# Altium footprint library PCB1.PcbLib: 55 footprints (part 4 of 4)
Each footprint in its own frame and in the unit in brackets; x right, y up, seen from the top. Pads: shape width x height; smd on the part's side, far side on the other; paste and mask are expansions set on the pad; w line width, h text height; cw(c..) or ccw(c..) is an arc to the next point about the centre after c.
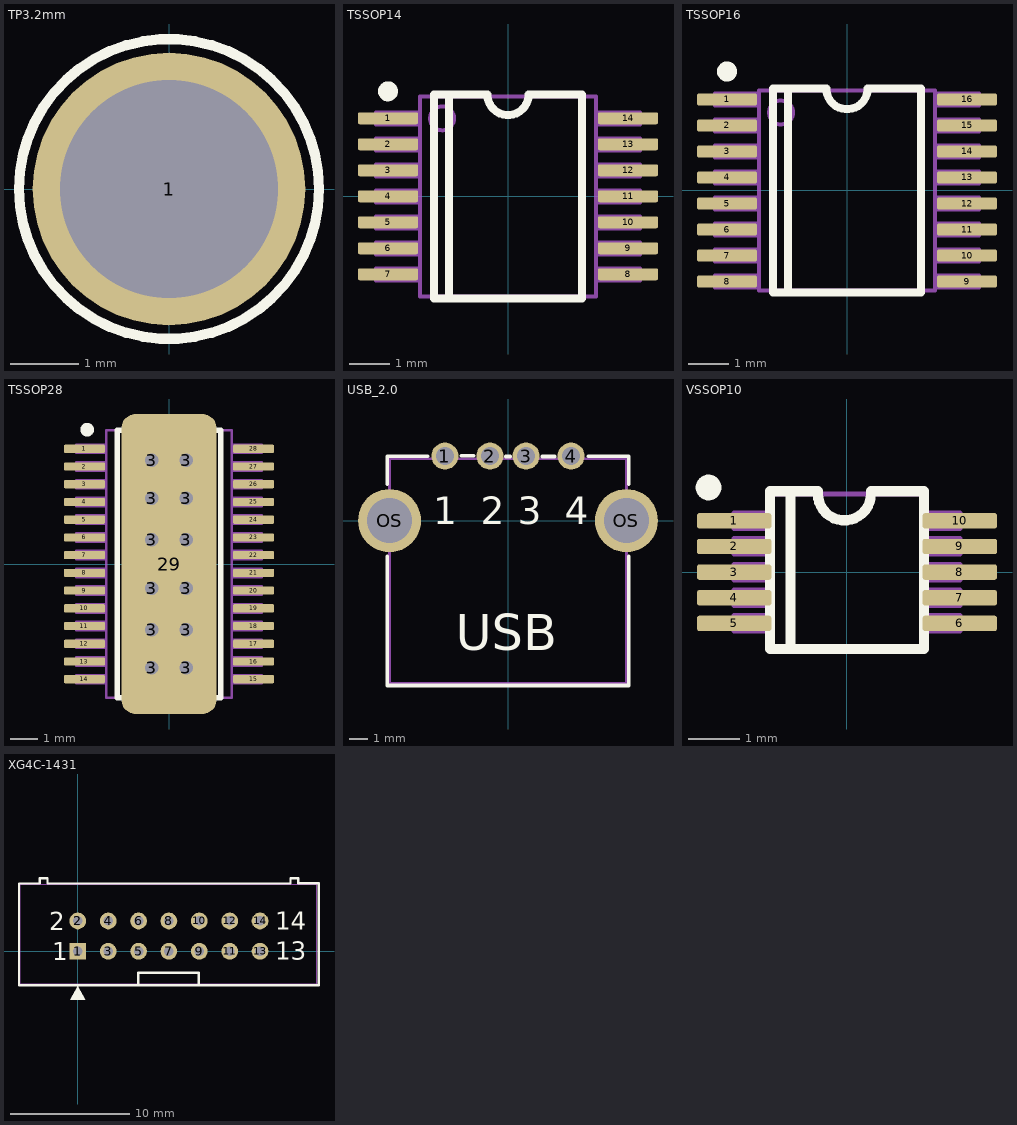
[diagram p3: the footprints below, top view; thin cyan lines are the x and y axes]

## TP3.2mm [mm] "TEST POINT 3.2mm"
pads (1):
  round 4 hole 3.2: 1(0,0)
Top Overlay:
  circle w0.15: c0,0 r2.2
Bottom Overlay:
  circle w0.15: c0,0 r1.55

## TSSOP14 [mm] "4.4mm Wide,0.65mm Pitch"
height 1.2
pads (14):
  rrect30% 1.5x0.3 smd: 1(-3,1.95) 2(-3,1.3) 3(-3,0.65) 4(-3,0) 5(-3,-0.65) 6(-3,-1.3) 7(-3,-1.95) 8(3,-1.95) 9(3,-1.3) 10(3,-0.65) 11(3,0) 12(3,0.65) 13(3,1.3) 14(3,1.95)
Top Overlay:
  circle w0.25: c-3,2.625 r0.125
  lines w0.2: -1.475,-2.55 -1.475,2.55 ; -1.85,-2.55 -1.85,2.55 -0.517,2.55 ccw(c0,2.55) 0.517,2.55 1.85,2.55 1.85,-2.55 -1.85,-2.55
Mechanical 5:
  circle w0.1: c-1.65,1.95 r0.3
  lines w0.1: -2.2,-2.1 -3.3,-2.1 -3.3,-1.8 -2.2,-1.8 ; -2.2,-1.45 -3.3,-1.45 -3.3,-1.15 -2.2,-1.15 ; -2.2,-0.8 -3.3,-0.8 -3.3,-0.5 -2.2,-0.5 ; -2.2,-0.15 -3.3,-0.15 -3.3,0.15 -2.2,0.15 ; -2.2,0.5 -3.3,0.5 -3.3,0.8 -2.2,0.8 ; -2.2,1.15 -3.3,1.15 -3.3,1.45 -2.2,1.45 ; -2.2,1.8 -3.3,1.8 -3.3,2.1 -2.2,2.1 ; 2.2,-2.1 3.3,-2.1 3.3,-1.8 2.2,-1.8 ; 2.2,-1.45 3.3,-1.45 3.3,-1.15 2.2,-1.15 ; 2.2,-0.8 3.3,-0.8 3.3,-0.5 2.2,-0.5 ; 2.2,-0.15 3.3,-0.15 3.3,0.15 2.2,0.15 ; 2.2,0.5 3.3,0.5 3.3,0.8 2.2,0.8 ; 2.2,1.15 3.3,1.15 3.3,1.45 2.2,1.45 ; 2.2,1.8 3.3,1.8 3.3,2.1 2.2,2.1 ; -2.2,-2.5 -2.2,2.5 2.2,2.5 2.2,-2.5 -2.2,-2.5
  text ".designator" at -1.75,-0.4 h0.8
Mechanical 13:
  lines w0.1: -2.2,-2.1 -3.3,-2.1 -3.3,-1.8 -2.2,-1.8 ; -2.2,-1.45 -3.3,-1.45 -3.3,-1.15 -2.2,-1.15 ; -2.2,-0.8 -3.3,-0.8 -3.3,-0.5 -2.2,-0.5 ; -2.2,-0.15 -3.3,-0.15 -3.3,0.15 -2.2,0.15 ; -2.2,0.5 -3.3,0.5 -3.3,0.8 -2.2,0.8 ; -2.2,1.15 -3.3,1.15 -3.3,1.45 -2.2,1.45 ; -2.2,1.8 -3.3,1.8 -3.3,2.1 -2.2,2.1 ; 2.2,-2.1 3.3,-2.1 3.3,-1.8 2.2,-1.8 ; 2.2,-1.45 3.3,-1.45 3.3,-1.15 2.2,-1.15 ; 2.2,-0.8 3.3,-0.8 3.3,-0.5 2.2,-0.5 ; 2.2,-0.15 3.3,-0.15 3.3,0.15 2.2,0.15 ; 2.2,0.5 3.3,0.5 3.3,0.8 2.2,0.8 ; 2.2,1.15 3.3,1.15 3.3,1.45 2.2,1.45 ; 2.2,1.8 3.3,1.8 3.3,2.1 2.2,2.1 ; -2.2,-2.5 2.2,-2.5 2.2,2.5 -2.2,2.5 -2.2,-2.5
3D body: height 1.8, standoff 0, extent -1.85,-2.55 1.85,2.55

## TSSOP16 [mm]
pads (16):
  rrect30% 1.5x0.3 smd: 1(-3,2.275) 2(-3,1.625) 3(-3,0.975) 4(-3,0.325) 5(-3,-0.325) 6(-3,-0.975) 7(-3,-1.625) 8(-3,-2.275) 9(3,-2.275) 10(3,-1.625) 11(3,-0.975) 12(3,-0.325) 13(3,0.325) 14(3,0.975) 15(3,1.625) 16(3,2.275)
Top Overlay:
  circle w0.25: c-3,2.975 r0.125
  lines w0.2: -1.475,-2.55 -1.475,2.55 ; -1.85,-2.55 1.85,-2.55 1.85,2.55 0.517,2.55 cw(c0,2.55) -0.517,2.55 -1.85,2.55 -1.85,-2.55
Mechanical 5:
  circle w0.1: c-1.65,1.95 r0.3
  rectangle: -3.3,2.125 -2.2,2.425
  lines w0.1: -2.2,-2.425 -3.3,-2.425 -3.3,-2.125 -2.2,-2.125 ; -2.2,-1.775 -3.3,-1.775 -3.3,-1.475 -2.2,-1.475 ; -2.2,-1.125 -3.3,-1.125 -3.3,-0.825 -2.2,-0.825 ; -2.2,-0.475 -3.3,-0.475 -3.3,-0.175 -2.2,-0.175 ; -2.2,0.175 -3.3,0.175 -3.3,0.475 -2.2,0.475 ; -2.2,0.825 -3.3,0.825 -3.3,1.125 -2.2,1.125 ; -2.2,1.475 -3.3,1.475 -3.3,1.775 -2.2,1.775 ; -2.2,2.125 -3.3,2.125 -3.3,2.425 -2.2,2.425 ; 2.2,-2.425 3.3,-2.425 3.3,-2.125 2.2,-2.125 ; 2.2,-1.775 3.3,-1.775 3.3,-1.475 2.2,-1.475 ; 2.2,-1.125 3.3,-1.125 3.3,-0.825 2.2,-0.825 ; 2.2,-0.475 3.3,-0.475 3.3,-0.175 2.2,-0.175 ; 2.2,0.175 3.3,0.175 3.3,0.475 2.2,0.475 ; 2.2,0.825 3.3,0.825 3.3,1.125 2.2,1.125 ; 2.2,1.475 3.3,1.475 3.3,1.775 2.2,1.775 ; 2.2,2.125 3.3,2.125 3.3,2.425 2.2,2.425 ; -2.2,-2.5 -2.2,2.5 2.2,2.5 2.2,-2.5 -2.2,-2.5
  text ".designator" at 1.27,4.572 h0.8
Mechanical 13:
  rectangle: -3.3,2.125 -2.2,2.425
  lines w0.1: -2.2,-2.425 -3.3,-2.425 -3.3,-2.125 -2.2,-2.125 ; -2.2,-1.775 -3.3,-1.775 -3.3,-1.475 -2.2,-1.475 ; -2.2,-1.125 -3.3,-1.125 -3.3,-0.825 -2.2,-0.825 ; -2.2,-0.475 -3.3,-0.475 -3.3,-0.175 -2.2,-0.175 ; -2.2,0.175 -3.3,0.175 -3.3,0.475 -2.2,0.475 ; -2.2,0.825 -3.3,0.825 -3.3,1.125 -2.2,1.125 ; -2.2,1.475 -3.3,1.475 -3.3,1.775 -2.2,1.775 ; -2.2,2.125 -3.3,2.125 -3.3,2.425 -2.2,2.425 ; 2.2,-2.425 3.3,-2.425 3.3,-2.125 2.2,-2.125 ; 2.2,-1.775 3.3,-1.775 3.3,-1.475 2.2,-1.475 ; 2.2,-1.125 3.3,-1.125 3.3,-0.825 2.2,-0.825 ; 2.2,-0.475 3.3,-0.475 3.3,-0.175 2.2,-0.175 ; 2.2,0.175 3.3,0.175 3.3,0.475 2.2,0.475 ; 2.2,0.825 3.3,0.825 3.3,1.125 2.2,1.125 ; 2.2,1.475 3.3,1.475 3.3,1.775 2.2,1.775 ; 2.2,2.125 3.3,2.125 3.3,2.425 2.2,2.425 ; -2.2,-2.5 2.2,-2.5 2.2,2.5 -2.2,2.5 -2.2,-2.5
3D body "User Library-TSSOP-16-1.STEP": height 1.1, standoff 0, extent -3.2,-2.5 3.2,2.5

## TSSOP28 [mm]
pads (41):
  rrect30% 1.5x0.3 smd: 1(-3.1,4.225) 2(-3.1,3.575) 3(-3.1,2.925) 4(-3.1,2.275) 5(-3.1,1.625) 6(-3.1,0.975) 7(-3.1,0.325) 8(-3.1,-0.325) 9(-3.1,-0.975) 10(-3.1,-1.625) 11(-3.1,-2.275) 12(-3.1,-2.925) 13(-3.1,-3.575) 14(-3.1,-4.225) 15(3.1,-4.225) 16(3.1,-3.575) 17(3.1,-2.925) 18(3.1,-2.275) 19(3.1,-1.625) 20(3.1,-0.975) 21(3.1,-0.325) 22(3.1,0.325) 23(3.1,0.975) 24(3.1,1.625) 25(3.1,2.275) 26(3.1,2.925) 27(3.1,3.575) 28(3.1,4.225)
  round 0.8 hole 0.5: 3(-0.635,-3.81) 3(-0.635,-2.413) 3(-0.635,-0.889) 3(-0.635,0.889) 3(-0.635,2.413) 3(-0.635,3.81) 3(0.635,-3.81) 3(0.635,-2.413) 3(0.635,-0.889) 3(0.635,0.889) 3(0.635,2.413) 3(0.635,3.81)
  rrect30% 3.5x11 smd: 29(0,0)
Top Overlay:
  circle w0.25: c-3,4.925 r0.125
  lines w0.2: -1.475,-4.9 -1.475,4.9 ; -1.9,-4.9 1.9,-4.9 1.9,4.9 0.517,4.9 cw(c0,4.9) -0.517,4.9 -1.9,4.9 -1.9,-4.9
Mechanical 5:
  rectangle: -3.4,4.075 -2.3,4.375
  lines w0.1: -2.3,-4.375 -3.4,-4.375 -3.4,-4.075 -2.3,-4.075 ; -2.3,-3.725 -3.4,-3.725 -3.4,-3.425 -2.3,-3.425 ; -2.3,-3.075 -3.4,-3.075 -3.4,-2.775 -2.3,-2.775 ; -2.3,-2.425 -3.4,-2.425 -3.4,-2.125 -2.3,-2.125 ; -2.3,-1.775 -3.4,-1.775 -3.4,-1.475 -2.3,-1.475 ; -2.3,-1.125 -3.4,-1.125 -3.4,-0.825 -2.3,-0.825 ; -2.3,-0.475 -3.4,-0.475 -3.4,-0.175 -2.3,-0.175 ; -2.3,0.175 -3.4,0.175 -3.4,0.475 -2.3,0.475 ; -2.3,0.825 -3.4,0.825 -3.4,1.125 -2.3,1.125 ; -2.3,1.475 -3.4,1.475 -3.4,1.775 -2.3,1.775 ; -2.3,2.125 -3.4,2.125 -3.4,2.425 -2.3,2.425 ; -2.3,2.775 -3.4,2.775 -3.4,3.075 -2.3,3.075 ; -2.3,3.425 -3.4,3.425 -3.4,3.725 -2.3,3.725 ; -2.3,4.075 -3.4,4.075 -3.4,4.375 -2.3,4.375 ; 2.3,-4.375 3.4,-4.375 3.4,-4.075 2.3,-4.075 ; 2.3,-3.725 3.4,-3.725 3.4,-3.425 2.3,-3.425 ; 2.3,-3.075 3.4,-3.075 3.4,-2.775 2.3,-2.775 ; 2.3,-2.425 3.4,-2.425 3.4,-2.125 2.3,-2.125 ; 2.3,-1.775 3.4,-1.775 3.4,-1.475 2.3,-1.475 ; 2.3,-1.125 3.4,-1.125 3.4,-0.825 2.3,-0.825 ; 2.3,-0.475 3.4,-0.475 3.4,-0.175 2.3,-0.175 ; 2.3,0.175 3.4,0.175 3.4,0.475 2.3,0.475 ; 2.3,0.825 3.4,0.825 3.4,1.125 2.3,1.125 ; 2.3,1.475 3.4,1.475 3.4,1.775 2.3,1.775 ; 2.3,2.125 3.4,2.125 3.4,2.425 2.3,2.425 ; 2.3,2.775 3.4,2.775 3.4,3.075 2.3,3.075 ; 2.3,3.425 3.4,3.425 3.4,3.725 2.3,3.725 ; 2.3,4.075 3.4,4.075 3.4,4.375 2.3,4.375 ; -2.3,-4.9 2.3,-4.9 2.3,4.9 -2.3,4.9 -2.3,-4.9
  text ".designator" at 0.635,-3.81 h1.5
3D body "User Library-PWP (R-PDSO-G28).STEP": height 1.2, standoff 0, extent -3.31,-4.9 3.31,4.9

## USB_2.0 [mm]
pads (6):
  round 1.5 hole 1: 1(-3.5,3.58) 2(-1,3.58) 3(1,3.58) 4(3.5,3.58)
  round 3.5 hole 2.5: OS(-6.57,0) OS(6.57,0)
Top Overlay:
  lines w0.2: -6.7,-1.99 -6.7,-8.5 -6.7,-9.144 6.7,-9.144 6.7,-8.5 6.7,-1.99 ; -6.7,2.01 -6.7,3.58 -4.445,3.58 ; -2.595,3.604 -1.905,3.604 ; -0.127,3.556 0.127,3.556 ; 1.905,3.556 2.595,3.556 ; 4.445,3.58 6.7,3.58 6.7,2.01
  text "4" at 3.15,-0.19 h1.52
  text "3" at 0.55,-0.19 h1.52
  text "2" at -1.5,-0.19 h1.52
  text "1" at -4.14,-0.19 h1.52
  text "USB" at -2.9,-7.2 h2
Mechanical 5:
  lines w0.15: -6.57,-9.017 6.57,-9.017 6.57,3.429 -6.57,3.429 -6.57,-9.017
Mechanical 13:
  lines w0.15: -6.57,-9.017 -6.57,3.429 6.57,3.429 6.57,-9.017 -6.57,-9.017

## VSSOP10 [mm]
pads (10):
  rrect30% 1.45x0.3 smd: 1(-2.2,1) 2(-2.2,0.5) 3(-2.2,0) 4(-2.2,-0.5) 5(-2.2,-1) 6(2.2,-1) 7(2.2,-0.5) 8(2.2,0) 9(2.2,0.5) 10(2.2,1)
Top Overlay:
  circle w0.25: c-2.7,1.65 r0.125
  lines w0.2: -1.1,-1.5 -1.1,1.575 ; -0.567,1.525 ccw(c-0.05,1.525) 0.467,1.525 ; -0.567,1.575 -1.5,1.575 -1.5,-1.5 1.5,-1.5 1.5,1.575 0.467,1.575
Mechanical 5:
  rectangle: -2.2,0.85 -1.5,1.15
  lines w0.1: -2.2,-1.15 -1.5,-1.15 -2.2,-1.15 ; -2.2,-1.15 -2.2,-0.85 ; -2.2,-1.15 -2.2,-0.85 ; -2.2,-0.85 -1.5,-0.85 -2.2,-0.85 ; -2.2,-0.65 -1.5,-0.65 -2.2,-0.65 ; -2.2,-0.65 -2.2,-0.35 ; -2.2,-0.65 -2.2,-0.35 ; -2.2,-0.35 -1.5,-0.35 -2.2,-0.35 ; -2.2,-0.15 -1.5,-0.15 -2.2,-0.15 ; -2.2,-0.15 -2.2,0.15 ; -2.2,-0.15 -2.2,0.15 ; -2.2,0.15 -1.5,0.15 -2.2,0.15 ; -2.2,0.35 -1.5,0.35 -2.2,0.35 ; -2.2,0.35 -2.2,0.65 ; -2.2,0.35 -2.2,0.65 ; -2.2,0.65 -1.5,0.65 -2.2,0.65 ; -2.2,0.85 -1.5,0.85 -2.2,0.85 ; -2.2,0.85 -2.2,1.15 ; -2.2,0.85 -2.2,1.15 ; -2.2,1.15 -1.5,1.15 -2.2,1.15 ; 2.2,-1.15 2.2,-0.85 ; 2.2,-1.15 1.5,-1.15 2.2,-1.15 ; 2.2,-1.15 2.2,-0.85 ; 2.2,-0.85 1.5,-0.85 2.2,-0.85 ; 2.2,-0.65 2.2,-0.35 ; 2.2,-0.65 1.5,-0.65 2.2,-0.65 ; 2.2,-0.65 2.2,-0.35 ; 2.2,-0.35 1.5,-0.35 2.2,-0.35 ; 2.2,-0.15 2.2,0.15 ; 2.2,-0.15 1.5,-0.15 2.2,-0.15 ; 2.2,-0.15 2.2,0.15 ; 2.2,0.15 1.5,0.15 2.2,0.15 ; 2.2,0.35 2.2,0.65 ; 2.2,0.35 1.5,0.35 2.2,0.35 ; 2.2,0.35 2.2,0.65 ; 2.2,0.65 1.5,0.65 2.2,0.65 ; 2.2,0.85 2.2,1.15 ; 2.2,0.85 1.5,0.85 2.2,0.85 ; 2.2,0.85 2.2,1.15 ; 2.2,1.15 1.5,1.15 2.2,1.15 ; -1.5,-1.5 1.5,-1.5 1.5,1.525 -1.5,1.525 -1.5,-1.5
Mechanical 13:
  lines w0.1: -2.2,-1.15 -1.5,-1.15 -2.2,-1.15 ; -2.2,-1.15 -2.2,-0.85 ; -2.2,-1.15 -2.2,-0.85 ; -2.2,-0.85 -1.5,-0.85 -2.2,-0.85 ; -2.2,-0.65 -1.5,-0.65 -2.2,-0.65 ; -2.2,-0.65 -2.2,-0.35 ; -2.2,-0.65 -2.2,-0.35 ; -2.2,-0.35 -1.5,-0.35 -2.2,-0.35 ; -2.2,-0.15 -1.5,-0.15 -2.2,-0.15 ; -2.2,-0.15 -2.2,0.15 ; -2.2,-0.15 -2.2,0.15 ; -2.2,0.15 -1.5,0.15 -2.2,0.15 ; -2.2,0.35 -1.5,0.35 -2.2,0.35 ; -2.2,0.35 -2.2,0.65 ; -2.2,0.35 -2.2,0.65 ; -2.2,0.65 -1.5,0.65 -2.2,0.65 ; -2.2,0.85 -1.5,0.85 -2.2,0.85 ; -2.2,0.85 -2.2,1.15 ; -2.2,0.85 -2.2,1.15 ; -2.2,1.15 -1.5,1.15 -2.2,1.15 ; 2.2,-1.15 2.2,-0.85 ; 2.2,-1.15 1.5,-1.15 2.2,-1.15 ; 2.2,-1.15 2.2,-0.85 ; 2.2,-0.85 1.5,-0.85 2.2,-0.85 ; 2.2,-0.65 2.2,-0.35 ; 2.2,-0.65 1.5,-0.65 2.2,-0.65 ; 2.2,-0.65 2.2,-0.35 ; 2.2,-0.35 1.5,-0.35 2.2,-0.35 ; 2.2,-0.15 2.2,0.15 ; 2.2,-0.15 1.5,-0.15 2.2,-0.15 ; 2.2,-0.15 2.2,0.15 ; 2.2,0.15 1.5,0.15 2.2,0.15 ; 2.2,0.35 2.2,0.65 ; 2.2,0.35 1.5,0.35 2.2,0.35 ; 2.2,0.35 2.2,0.65 ; 2.2,0.65 1.5,0.65 2.2,0.65 ; 2.2,0.85 2.2,1.15 ; 2.2,0.85 1.5,0.85 2.2,0.85 ; 2.2,0.85 2.2,1.15 ; 2.2,1.15 1.5,1.15 2.2,1.15 ; -1.5,-1.5 -1.5,1.525 1.5,1.525 1.5,-1.5 -1.5,-1.5
3D body "User Library-DGS0010A.STEP": height 1.1, standoff 0, extent -2.463,-1.5 2.463,1.5

## XG4C-1431 [mm]
pads (14):
  rect 1.4x1.4 hole 0.8: 1(0,0)
  round 1.4 hole 0.8: 2(0,2.54) 3(2.54,0) 4(2.54,2.54) 5(5.08,0) 6(5.08,2.54) 7(7.62,0) 8(7.62,2.54) 9(10.16,0) 10(10.16,2.54) 11(12.7,0) 12(12.7,2.54) 13(15.24,0) 14(15.24,2.54)
Top Overlay:
  region: 0,-2.921 0.635,-4.064 -0.635,-4.064
  lines w0.2: 5.05,-2.689 5.05,-1.8 10.13,-1.8 10.13,-2.689 ; 17.792,5.67 -2.54,5.67 -2.54,6.096 -3.175,6.096 -3.175,5.67 -4.92,5.67 -4.92,-2.83 20.16,-2.83 20.16,5.67 ; 17.792,5.7 17.792,6.126 18.427,6.126 18.427,5.7 20.172,5.7
  text "13" at 16.5,-0.7 h1.5
  text "14" at 16.5,1.8 h1.5
  text "1" at -2.123,-0.762 h1.5
  text "2" at -2.377,1.778 h1.5
Mechanical 5:
  lines w0.1: -4.8,-2.7 20,-2.7 20,5.6 -4.8,5.6 -4.8,-2.7